# Altium schematic symbol library HAB_Schematic_lib.SchLib: 9 symbols
Pins are listed as number, name and electrical type; pins without a type are passive.

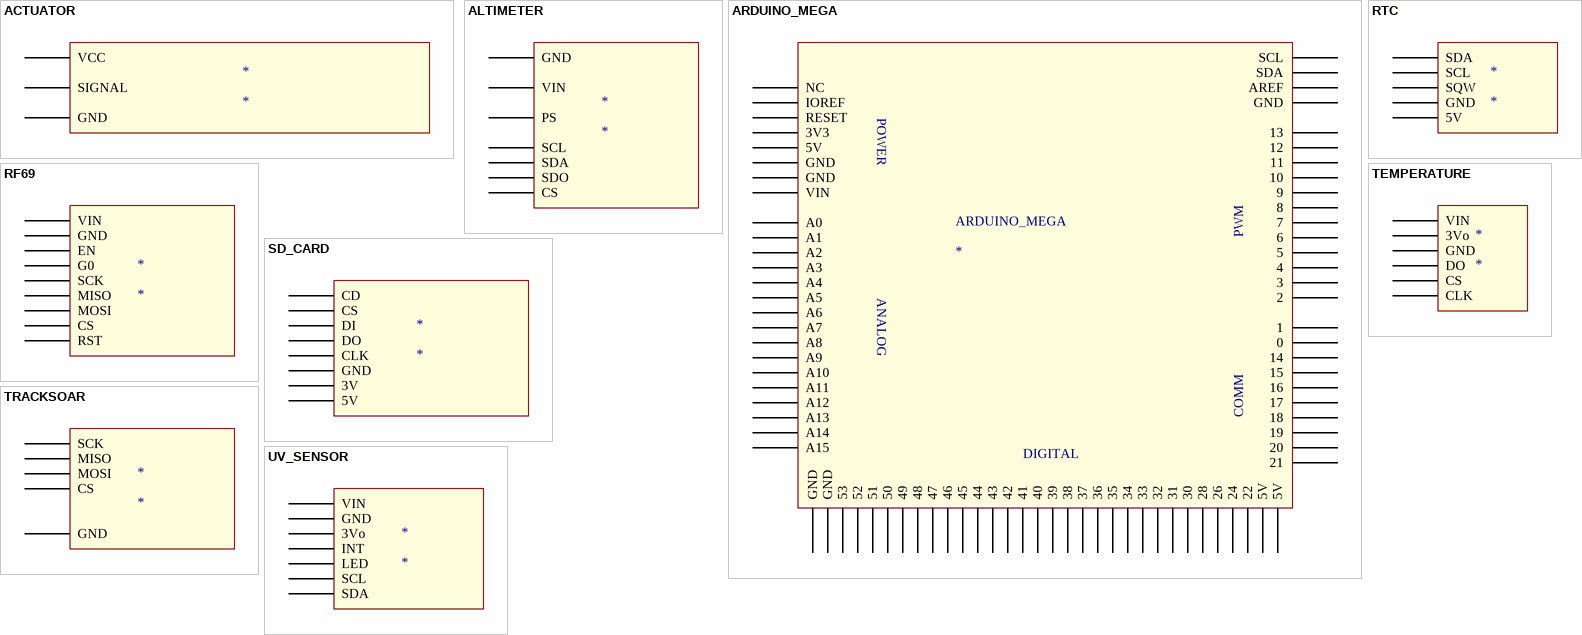
[diagram p0: symbols ACTUATOR to UV_SENSOR]

## ACTUATOR
designator *
pins: 0 VCC, 1 SIGNAL, 2 GND

## ALTIMETER
designator *
pins: 1 GND, 2 VIN, 3 PS, 4 SCL, 5 SDA, 6 SDO, 7 CS

## ARDUINO_MEGA
designator ARDUINO_MEGA
pins: 1 NC, 2 IOREF, 2 A2, 3 RESET, 3 A3, 4 3V3, 4 A4, 5 5V, 5 A5, 6 GND, 6 A6, 7 GND, 7 A7, 8 VIN, 8 A8, 9 A0, 9 A9, 10 A1, 10 A10, 11 A11, 12 A12, 13 A13, 14 A14, 15 A15, 16 GND, 17 GND, 18 53, 19 30, 20 31, 21 32, 22 33, 23 34, 24 35, 25 36, 26 37, 27 38, 28 39, 29 40, 30 41, 31 42, 32 43, 33 44, 34 45, 35 46, 36 47, 37 48, 38 49, 39 50, 40 51, 41 52, 42 28, 43 26, 44 24, 45 22, 46 5V, 47 5V, 48 0, 49 1, 50 2, 51 3, 52 4, 53 5, 54 6, 55 7, 56 8, 57 9, 58 10, 59 11, 60 12, 61 13, 62 GND, 63 AREF, 64 SDA, 65 SCL, 66 14, 67 15, 68 16, 69 17, 70 18, 71 19, 72 20, 73 21
text: POWER; PWM; ANALOG; COMM; DIGITAL

## RF69
designator *
pins: 1 VIN, 2 GND, 3 EN, 4 G0, 5 SCK, 6 MISO, 7 MOSI, 8 CS, 9 RST

## RTC
designator *
pins: 1 SDA, 2 SCL, 3 SQW, 4 GND, 5 5V

## SD_CARD
designator *
pins: 1 CD, 2 CS, 3 DI, 4 DO, 5 CLK, 6 GND, 7 3V, 8 5V

## TEMPERATURE
designator *
pins: 1 VIN, 2 3Vo, 3 GND, 4 DO, 5 CS, 6 CLK

## TRACKSOAR
designator *
pins: 1 MISO, 2 MOSI, 3 CS, 4 SCK, 5 GND

## UV_SENSOR
designator *
pins: 1 VIN, 2 GND, 3 3Vo, 4 INT, 5 LED, 6 SCL, 7 SDA